# Altium schematic symbol library Main.SchLib: 64 symbols
Pins are listed as number, name and electrical type; pins without a type are passive.

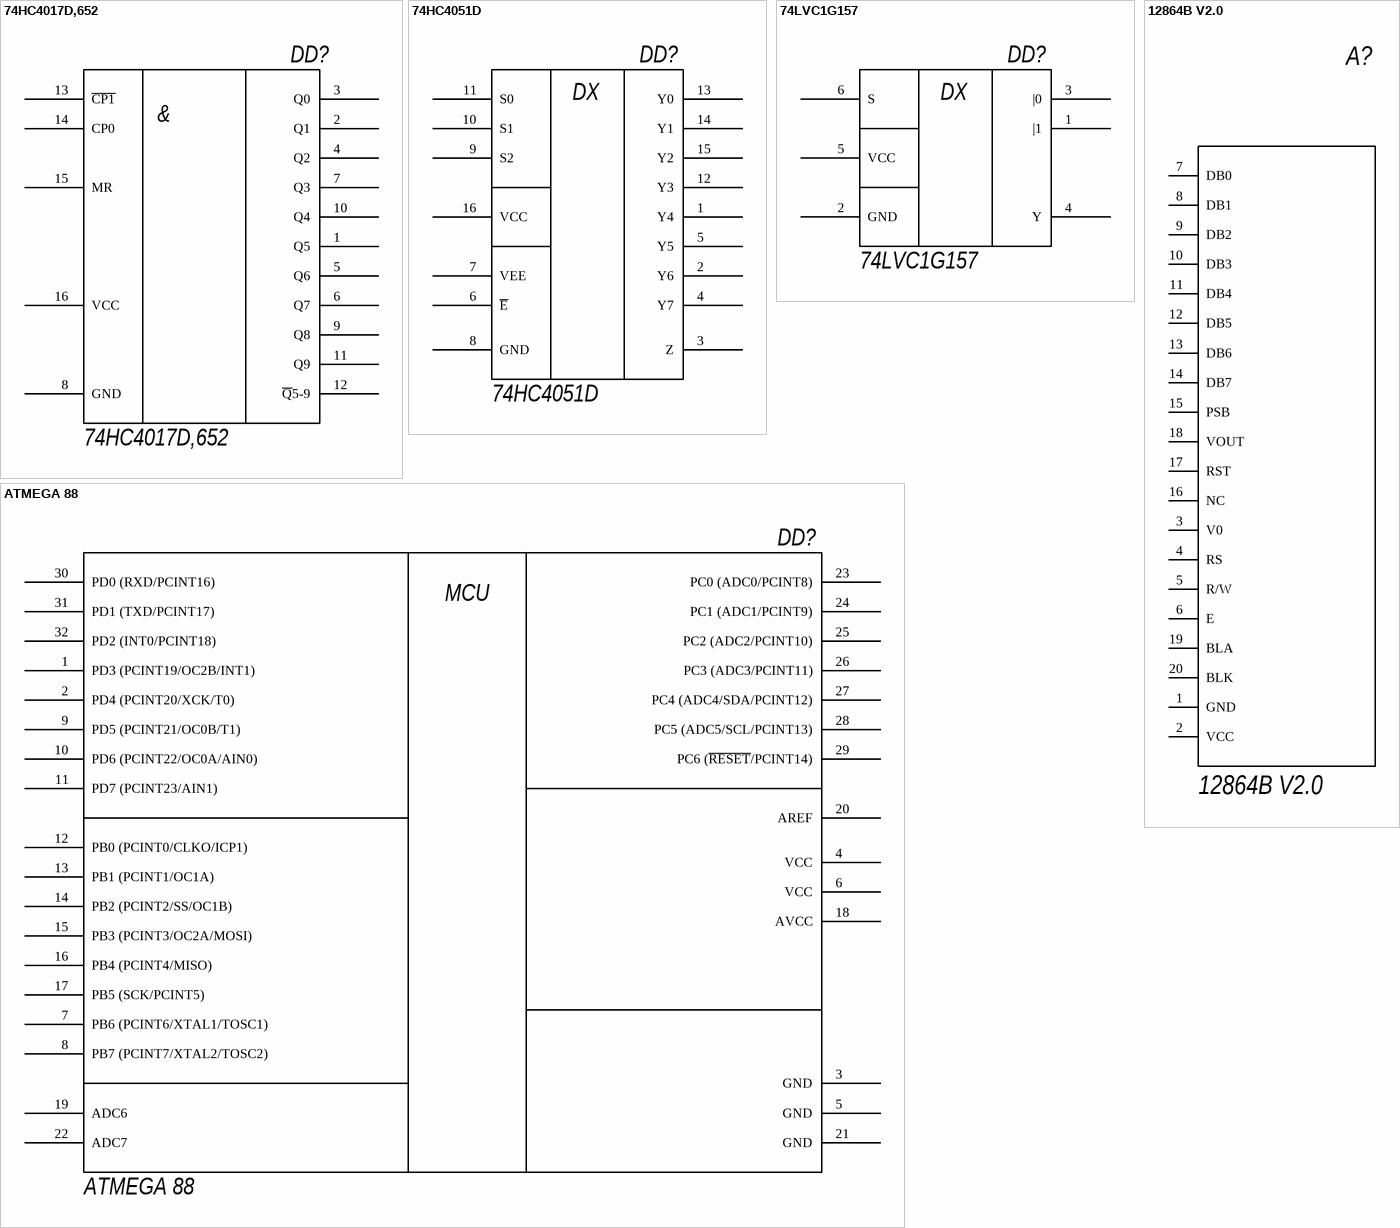
[diagram p0: symbols 74HC4017D,652 to ATMEGA 88]

## 74HC4017D,652
designator DD?
Микросхема, десятичный счетчик; Class: Схемы интегральные, цифровые; Note: *; Vendor: *
footprint SOP-16
pins: 1 Q5, 2 Q1, 3 Q0, 4 Q2, 5 Q6, 6 Q7, 7 Q3, 8 GND, 9 Q8, 10 Q4, 11 Q9, 12 ~{Q}5-9, 13 ~{CP1}, 14 CP0, 15 MR, 16 VCC
text: &

## 74HC4051D
designator DD?
Восьми канальный аналоговый мультиплексор/демультиплексор; Class: Схемы интегральные, цифровые
pins: 1 Y4, 2 Y6, 3 Z, 4 Y7, 5 Y5, 6 ~{E}, 7 VEE, 8 GND, 9 S2, 10 S1, 11 S0, 12 Y3, 13 Y0, 14 Y1, 15 Y2, 16 VCC
text: DX

## 74LVC1G157
designator DD?
Двухканальный канальный мультиплексор; Class: Схемы интегральные, цифровые
pins: 1 |1, 2 GND, 3 |0, 4 Y, 5 VCC, 6 S
text: DX

## 12864B V2.0
designator A?
ЖК монохромный дисплей / ("Mode" переключает внешний вид); Class: Устройства общего назначения; Note: *; Vendor: *
footprint LCD-12864B_v_2_0
pins: 1 GND, 2 VCC, 3 V0, 4 RS, 5 R/W, 6 E, 7 DB0, 8 DB1, 9 DB2, 10 DB3, 11 DB4, 12 DB5, 13 DB6, 14 DB7, 15 PSB, 16 NC, 17 RST, 18 VOUT, 19 BLA, 20 BLK
1 alternate drawing of the same symbol

## ATMEGA 88
designator DD?
Микроконтроллер 8бит, 8 Кб flash; Class: Схемы интегральные, цифровые; Note: *; Vendor: *
pins: 1 PD3 (PCINT19/OC2B/INT1), 2 PD4 (PCINT20/XCK/T0), 3 GND, 4 VCC, 5 GND, 6 VCC, 7 PB6 (PCINT6/XTAL1/TOSC1) , 8 PB7 (PCINT7/XTAL2/TOSC2) , 9 PD5 (PCINT21/OC0B/T1) , 10 PD6 (PCINT22/OC0A/AIN0) , 11 PD7 (PCINT23/AIN1) , 12 PB0 (PCINT0/CLKO/ICP1) , 13 PB1 (PCINT1/OC1A) , 14 PB2 (PCINT2/SS/OC1B) , 15 PB3 (PCINT3/OC2A/MOSI) , 16 PB4 (PCINT4/MISO) , 17 PB5 (SCK/PCINT5), 18 AVCC, 19 ADC6, 20 AREF, 21 GND, 22 ADC7, 23 PC0 (ADC0/PCINT8), 24 PC1 (ADC1/PCINT9), 25 PC2 (ADC2/PCINT10), 26 PC3 (ADC3/PCINT11), 27 PC4 (ADC4/SDA/PCINT12), 28 PC5 (ADC5/SCL/PCINT13), 29 PC6 (~{RESET}/PCINT14), 30 PD0 (RXD/PCINT16), 31 PD1 (TXD/PCINT17), 32 PD2 (INT0/PCINT18)
text: MCU

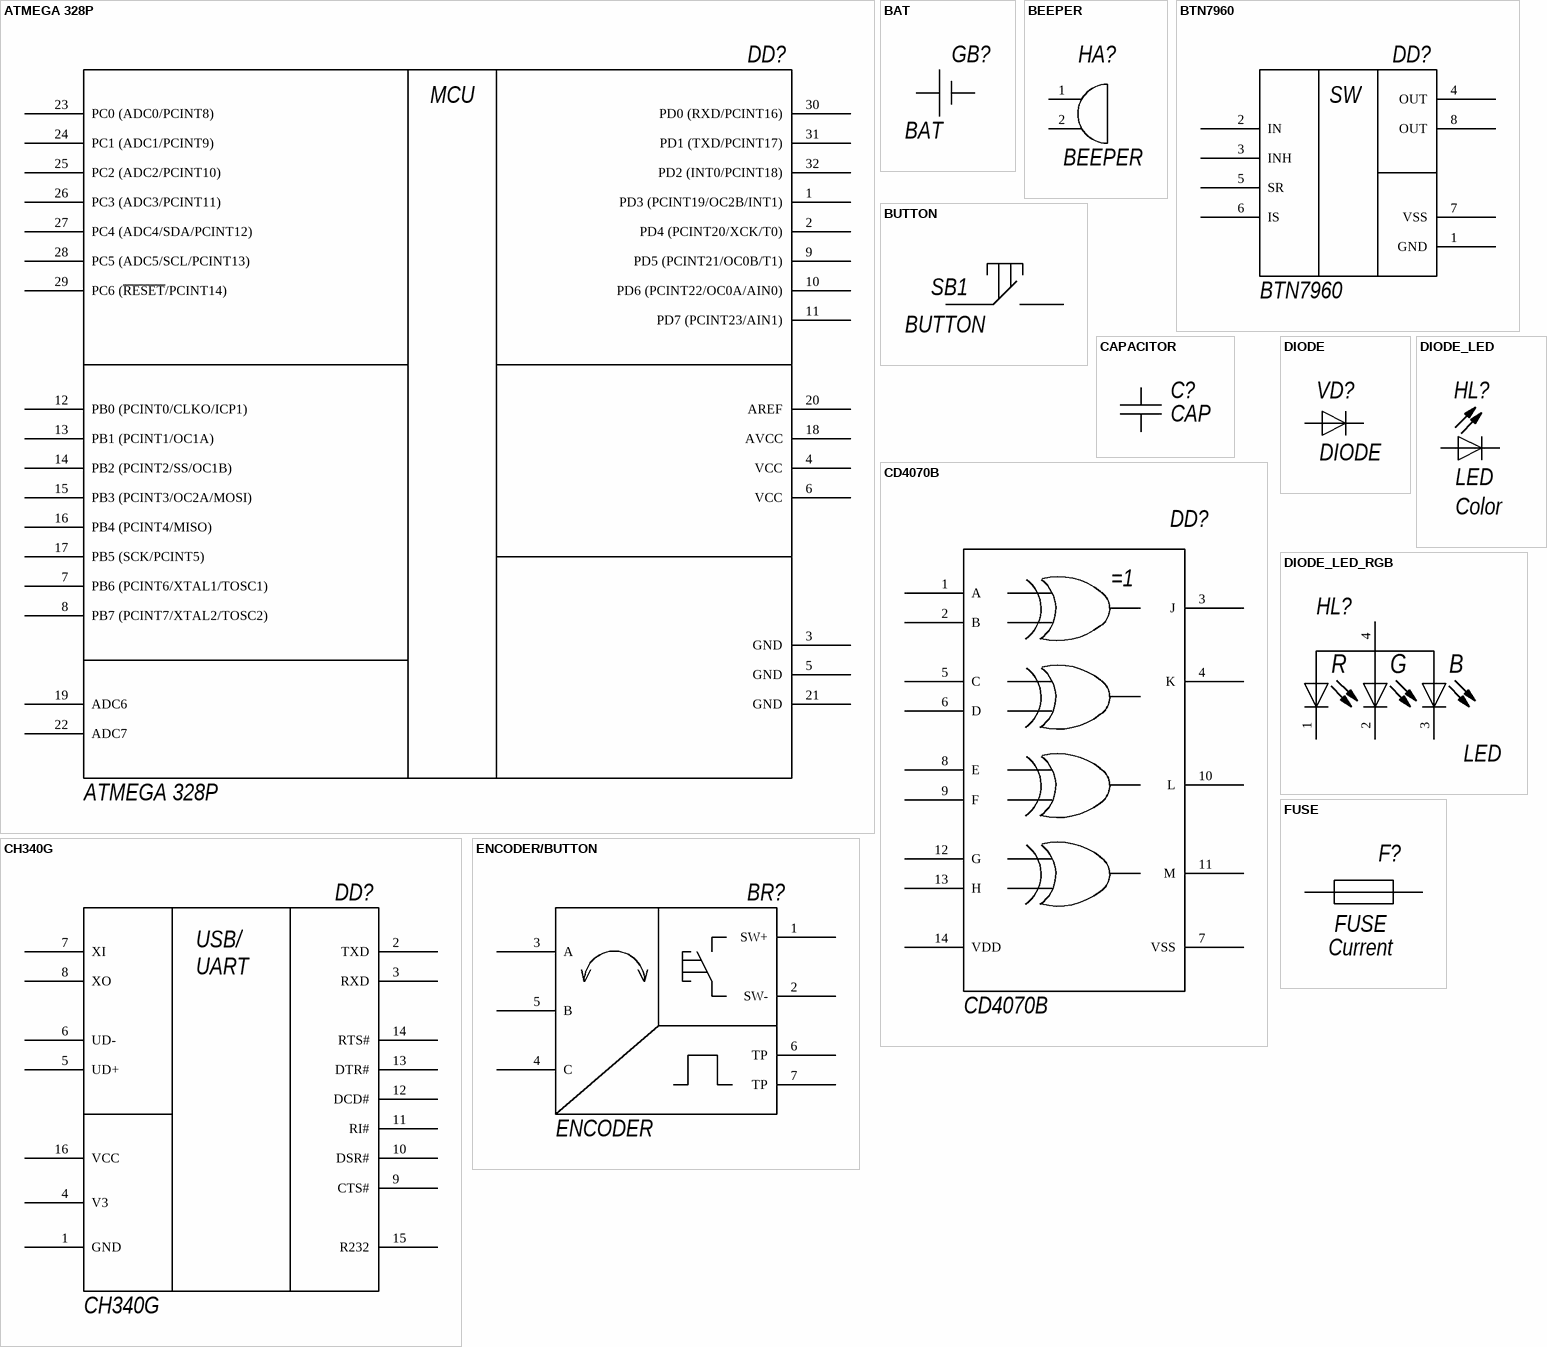
[diagram p1: symbols ATMEGA 328P to FUSE]

## ATMEGA 328P
designator DD?
Микроконтроллер 8бит, 32 Кб flash; Class: Схемы интегральные, цифровые; Vendor: Atmel; Note: *
footprint LQFP-32
pins: 1 PD3 (PCINT19/OC2B/INT1), 2 PD4 (PCINT20/XCK/T0), 3 GND, 4 VCC, 5 GND, 6 VCC, 7 PB6 (PCINT6/XTAL1/TOSC1), 8 PB7 (PCINT7/XTAL2/TOSC2), 9 PD5 (PCINT21/OC0B/T1), 10 PD6 (PCINT22/OC0A/AIN0), 11 PD7 (PCINT23/AIN1), 12 PB0 (PCINT0/CLKO/ICP1), 13 PB1 (PCINT1/OC1A), 14 PB2 (PCINT2/SS/OC1B), 15 PB3 (PCINT3/OC2A/MOSI), 16 PB4 (PCINT4/MISO), 17 PB5 (SCK/PCINT5), 18 AVCC, 19 ADC6, 20 AREF, 21 GND, 22 ADC7, 23 PC0 (ADC0/PCINT8), 24 PC1 (ADC1/PCINT9), 25 PC2 (ADC2/PCINT10), 26 PC3 (ADC3/PCINT11), 27 PC4 (ADC4/SDA/PCINT12), 28 PC5 (ADC5/SCL/PCINT13), 29 PC6 (~{RESET}/PCINT14), 30 PD0 (RXD/PCINT16), 31 PD1 (TXD/PCINT17), 32 PD2 (INT0/PCINT18)
text: MCU

## BAT
designator GB?
Батарея; Class: Генераторы, источники питания; Vendor: *; Note: *
pins: 1, 2

## BEEPER
designator HA?
Излучатель звука, прибор звуковой сигнализации; Class: Устройства индикационные и сигнальные; Vendor: *; Note: *
pins: 1, 2

## BTN7960
designator DD?
Полумостовая схема управления; Class: Схемы интегральные, цифровые; Vendor: Infineon; Note: *
footprint PG-TO263-7-1
pins: 1 GND, 2 IN, 3 INH, 4 OUT, 5 SR, 6 IS, 7 VSS, 8 OUT
text: SW

## BUTTON
designator SB1
Выключатель; Class: *; Note: *; Vendor: *
pins: 1, 2

## CAPACITOR
designator C?, comment CAP
Конденсатор / ("Mode" переключает внешний вид) / 1.  Постоянной емкости / 2. Поляризованный конденсатор / 3. Электролитический поляризованный / 4. Электролитический неполяризованный; Class: Конденсаторы; Note: *; Vendor: *
pins: 1, 2
3 alternate drawings of the same symbol

## CD4070B
designator DD?
Микросхема, 4 логических элемента "исключающее или" (XOR); Class: Схемы интегральные, цифровые; Note: *; Vendor: *
footprint SOP-16
pins: 1 A, 2 B, 3 J, 4 K, 5 C, 6 D, 7 VSS, 8 E, 9 F, 10 L, 11 M, 12 G, 13 H, 14 VDD

## CH340G
designator DD?
Преобразователь USB-UART; Class: Схемы интегральные, цифровые; Vendor: WCH; Note: *
footprint SOP-16
pins: 1 GND, 2 TXD, 3 RXD, 4 V3, 5 UD+, 6 UD-, 7 XI, 8 XO, 9 CTS#, 10 DSR#, 11 RI#, 12 DCD#, 13 DTR#, 14 RTS#, 15 R232, 16 VCC
text: USB/ / UART

## DIODE
designator VD?
Диод / ("Mode" переключает внешний вид) / 1. Общее обозначение / 2. Шоттки / 3. Стабилитрон; Class: Приборы полупроводниковые; Vendor: *
pins: 1, 2
2 alternate drawings of the same symbol

## DIODE_LED
designator HL?, comment LED  Note: Color
Светодиод, прибор световой сигнализации; Class: Устройства индикационные и сигнальные; Vendor: *
pins: 1, 2

## DIODE_LED_RGB
designator HL?, comment LED
Светодиод, прибор световой сигнализации / ("Mode" переключает внешний вид) / 1. С общим анодом / 2. С общим катодом /; Class: Устройства индикационные и сигнальные; Vendor: *; Note: *
pins: 1 R, 2 G, 3 B, 4 COM
1 alternate drawing of the same symbol

## ENCODER/BUTTON
designator BR?, comment ENCODER
Энкодер со встроенной кнопкой; Class: Преобразователи неэлектрических величин; Note: *; Vendor: *
footprint PEC11R-4215F-S0024
pins: 1 SW+, 2 SW-, 3 A, 4 C, 5 B, 6 TP, 7 TP

## FUSE
designator F?  Note: Current
Предохранитель / ("Mode" переключает внешний вид) / 1. Плавкий / 2. Самовосстанавливающийся; Class: Предохранители; Vendor: *
pins: 1, 2
1 alternate drawing of the same symbol

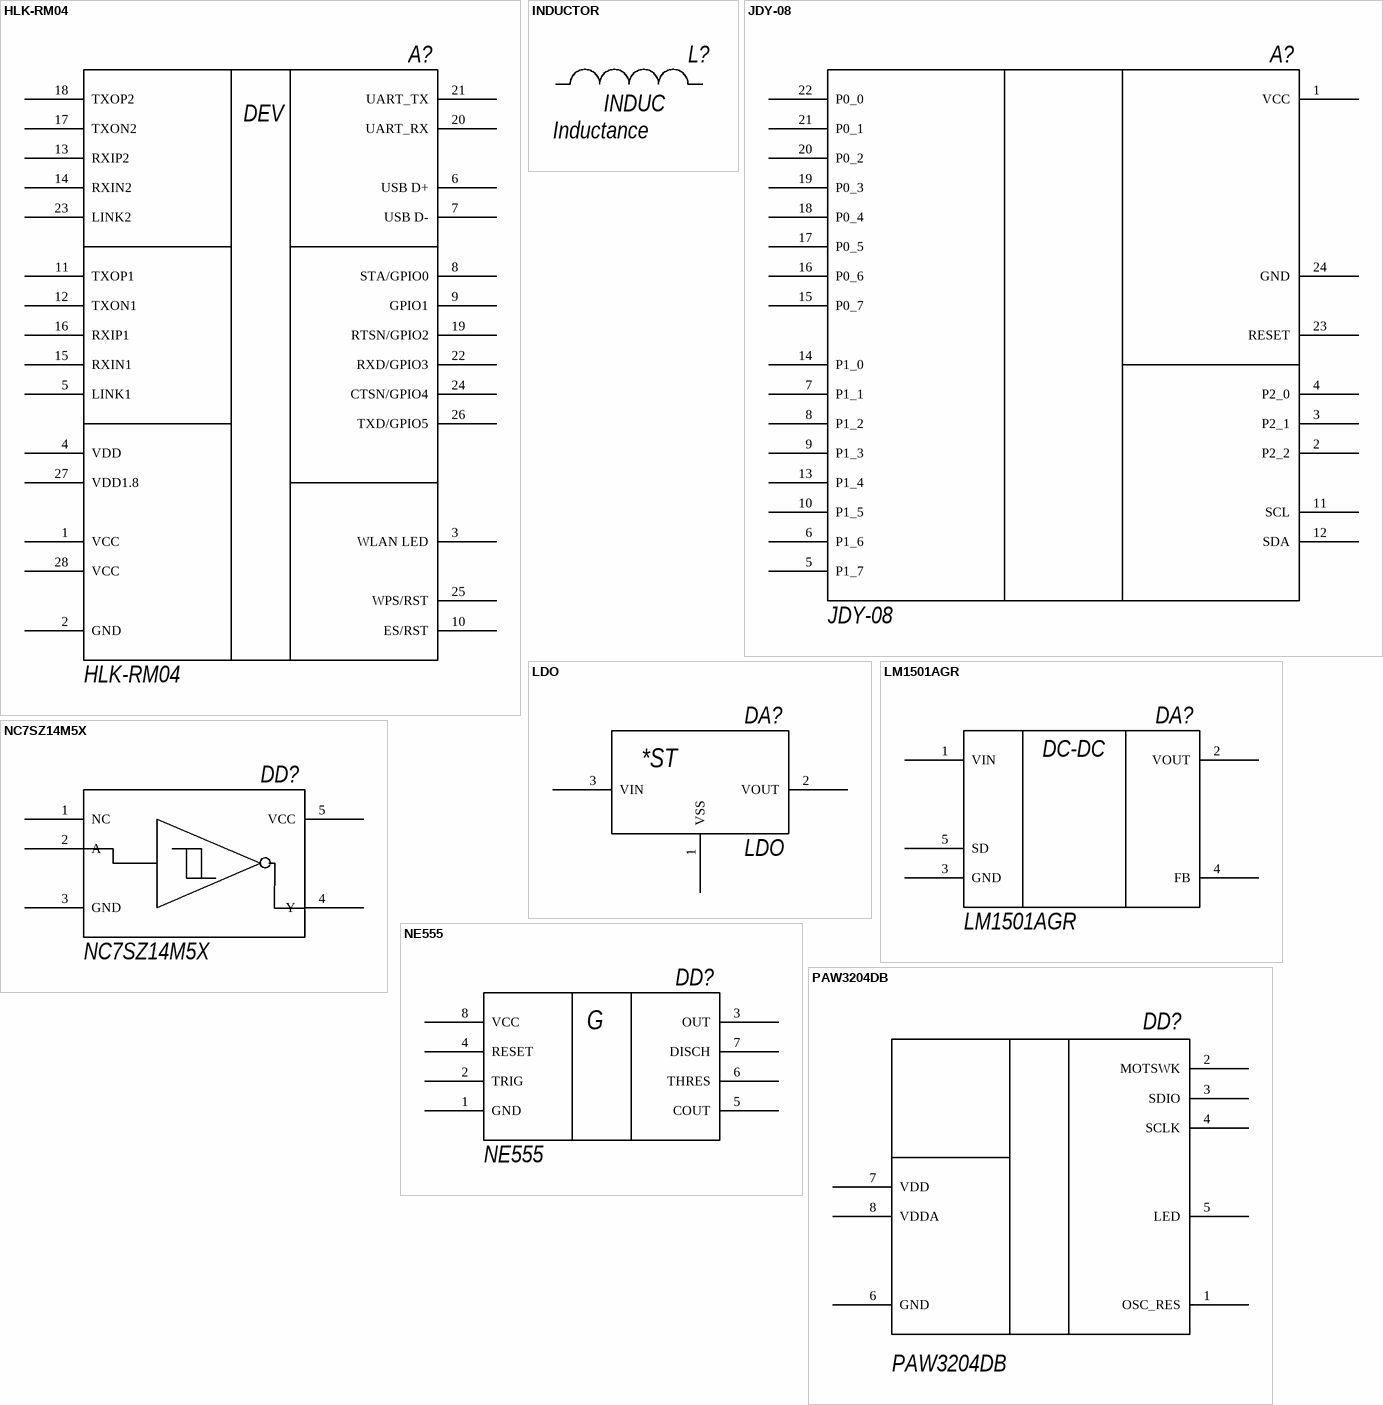
[diagram p2: symbols HLK-RM04 to PAW3204DB]

## HLK-RM04
designator A?
Wi-Fi модуль / ("Mode" переключает внешний вид); Class: Устройства общего назначения; Vendor: Hi-Link Tech; Note: *
footprint HLK-RM04
footprint HLK-RM04_PBS
pins: 1 VCC, 2 GND, 3 WLAN LED, 4 VDD, 5 LINK1, 6 USB D+, 7 USB D-, 8 STA/GPIO0, 9 GPIO1, 10 ES/RST, 11 TXOP1, 12 TXON1, 13 RXIP2, 14 RXIN2, 15 RXIN1, 16 RXIP1, 17 TXON2, 18 TXOP2, 19 RTSN/GPIO2, 20 UART_RX, 21 UART_TX, 22 RXD/GPIO3, 23 LINK2, 24 CTSN/GPIO4, 25 WPS/RST, 26 TXD/GPIO5, 27 VDD1.8, 28 VCC
1 alternate drawing of the same symbol
text: DEV

## INDUCTOR
designator L?, comment INDUC  Note: Inductance
Индуктивность; Class: Катушки индуктивности, дроссели; Vendor: *
pins: 1, 2

## JDY-08
designator A?
Модуль BLE, на базе МК CC2541; Class: Устройство; Note: *; Vendor: *
pins: 1 VCC, 2 P2_2, 3 P2_1, 4 P2_0, 5 P1_7, 6 P1_6, 7 P1_1, 8 P1_2, 9 P1_3, 10 P1_5, 11 SCL, 12 SDA, 13 P1_4, 14 P1_0, 15 P0_7, 16 P0_6, 17 P0_5, 18 P0_4, 19 P0_3, 20 P0_2, 21 P0_1, 22 P0_0, 23 RESET, 24 GND

## LDO
designator DA?
Стабилизатор напряжения, общее обозначение; Class: Интегральные микросхемы, аналоговые
pins: 1 VSS, 2 VOUT, 3 VIN
text: *ST

## LM1501AGR
designator DA?
Понижающий DC-DC преобразователь; Class: Интегральные микросхемы, аналоговые; Vendor: TAEJIN TECHNOLOGY Co., Ltd.; Note: *
pins: 1 VIN, 2 VOUT, 3 GND, 4 FB, 5 SD
text: DC-DC

## NC7SZ14M5X
designator DD?
Микросхема, инвертор с триггером Шмитта.; Class: Схемы интегральные, цифровые; Note: *; Vendor: *
footprint SOT-23-5
pins: 1 NC, 2 A, 3 GND, 4 Y, 5 VCC

## NE555
designator DD?
Микросхема, таймер/осциллятор; Class: Схемы интегральные, цифровые
pins: 1 GND, 2 TRIG, 3 OUT, 4 RESET, 5 COUT, 6 THRES, 7 DISCH, 8 VCC
text: G

## PAW3204DB
designator DD?
Оптический навиграционный сенсор; Class: Схемы интегральные, цифровые; Note: *; Vendor: *
footprint PAW3204DB
pins: 1 OSC_RES, 2 MOTSWK, 3 SDIO, 4 SCLK, 5 LED, 6 GND, 7 VDD, 8 VDDA

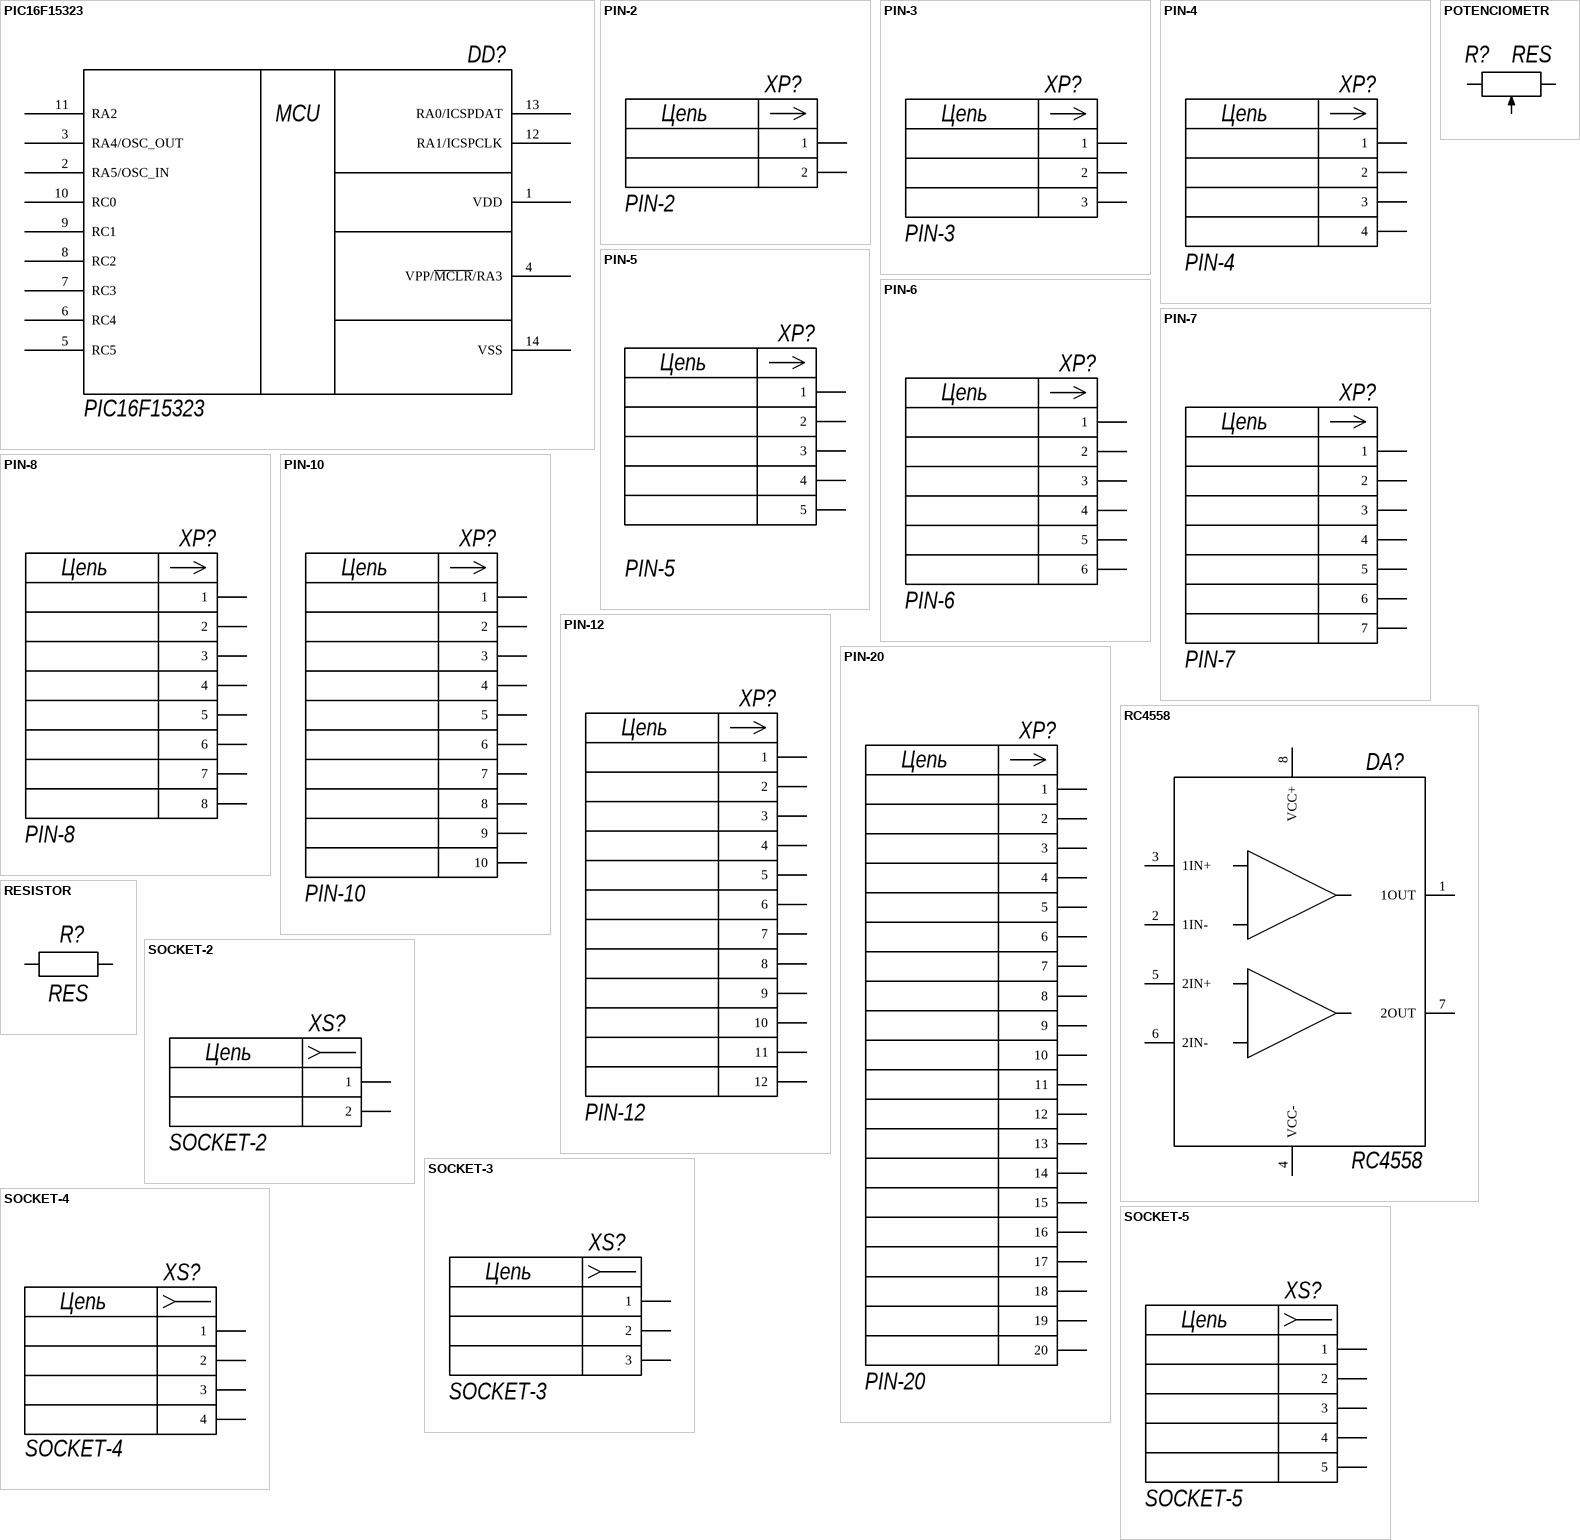
[diagram p3: symbols PIC16F15323 to SOCKET-5]

## PIC16F15323
designator DD?
Микроконтроллер 8бит, 3.5Кб flash; Class: Схемы интегральные, цифровые; Note: *; Vendor: *
pins: 1 VDD, 2 RA5/OSC_IN, 3 RA4/OSC_OUT, 4 VPP/~{MCLR}/RA3, 5 RC5, 6 RC4, 7 RC3, 8 RC2, 9 RC1, 10 RC0, 11 RA2, 12 RA1/ICSPCLK, 13 RA0/ICSPDAT, 14 VSS
text: MCU

## PIN-2
designator XP?
Штырь, 2 контакта / ("Mode" переключает внешний вид); Class: Соединения контактные
pins: 1, 2
1 alternate drawing of the same symbol
text: Цепь

## PIN-3
designator XP?
Штырь, 3 контакта / ("Mode" переключает внешний вид); Class: Соединения контактные
pins: 1, 2, 3
1 alternate drawing of the same symbol
text: Цепь

## PIN-4
designator XP?
Штырь, 4 контакта / ("Mode" переключает внешний вид); Class: Соединения контактные
pins: 1, 2, 3, 4
1 alternate drawing of the same symbol
text: Цепь

## PIN-5
designator XP?
Штырь, 5 контакта / ("Mode" переключает внешний вид); Class: Соединения контактные
pins: 1, 2, 3, 4, 5
1 alternate drawing of the same symbol
text: Цепь

## PIN-6
designator XP?
Штырь, 6 контактов /; Class: Соединения контактные
pins: 1, 2, 3, 4, 5, 6
text: Цепь

## PIN-7
designator XP?
Штырь, 7 контактов /; Class: Соединения контактные
pins: 1, 2, 3, 4, 5, 6, 7
text: Цепь

## PIN-8
designator XP?
Штырь, 8 контактов /; Class: Соединения контактные
pins: 1, 2, 3, 4, 5, 6, 7, 8
text: Цепь

## PIN-10
designator XP?
Штырь, 10 контактов /; Class: Соединения контактные
pins: 1, 2, 3, 4, 5, 6, 7, 8, 9, 10
text: Цепь

## PIN-12
designator XP?
Штырь, 12 контактов /; Class: Соединения контактные
pins: 1, 2, 3, 4, 5, 6, 7, 8, 9, 10, 11, 12
text: Цепь

## PIN-20
designator XP?
Штырь, 20 контактов /; Class: Соединения контактные
pins: 1, 2, 3, 4, 5, 6, 7, 8, 9, 10, 11, 12, 13, 14, 15, 16, 17, 18, 19, 20
text: Цепь

## POTENCIOMETR
designator R?, comment RES
Резистор переменный / ("Mode" переключает внешний вид) / 1. Общее обозначение; Class: Резисторы; Vendor: *; Note: *
pins: 1, 2, 3

## RC4558
designator DA?
2-х канальный операционный усилитель общего назначения; Class: Интегральные микросхемы, аналоговые; Note: *; Vendor: *
pins: 1 1OUT, 2 1IN-, 3 1IN+, 4 VCC-, 5 2IN+, 6 2IN-, 7 2OUT, 8 VCC+

## RESISTOR
designator R?, comment RES
Постоянный резистор / ("Mode" переключает внешний вид) / \ 0.25 Вт; \\ 0.125 Вт; \\\ 0.05 Вт; -- 0.5 Вт; | 1 Вт: || 2 Вт; V 5 Вт; Class: Резисторы; Vendor: *; Note: *
pins: 1, 2
7 alternate drawings of the same symbol

## SOCKET-2
designator XS?
Гнездо, 2 контакта; Class: Соединения контактные
pins: 1, 2
text: Цепь

## SOCKET-3
designator XS?
Гнездо, 3 контакта; Class: Соединения контактные
pins: 1, 2, 3
text: Цепь

## SOCKET-4
designator XS?
Гнездо, 4 контакта; Class: Соединения контактные
pins: 1, 2, 3, 4
text: Цепь

## SOCKET-5
designator XS?
Гнездо, 5 контактов; Class: Соединения контактные
pins: 1, 2, 3, 4, 5
text: Цепь

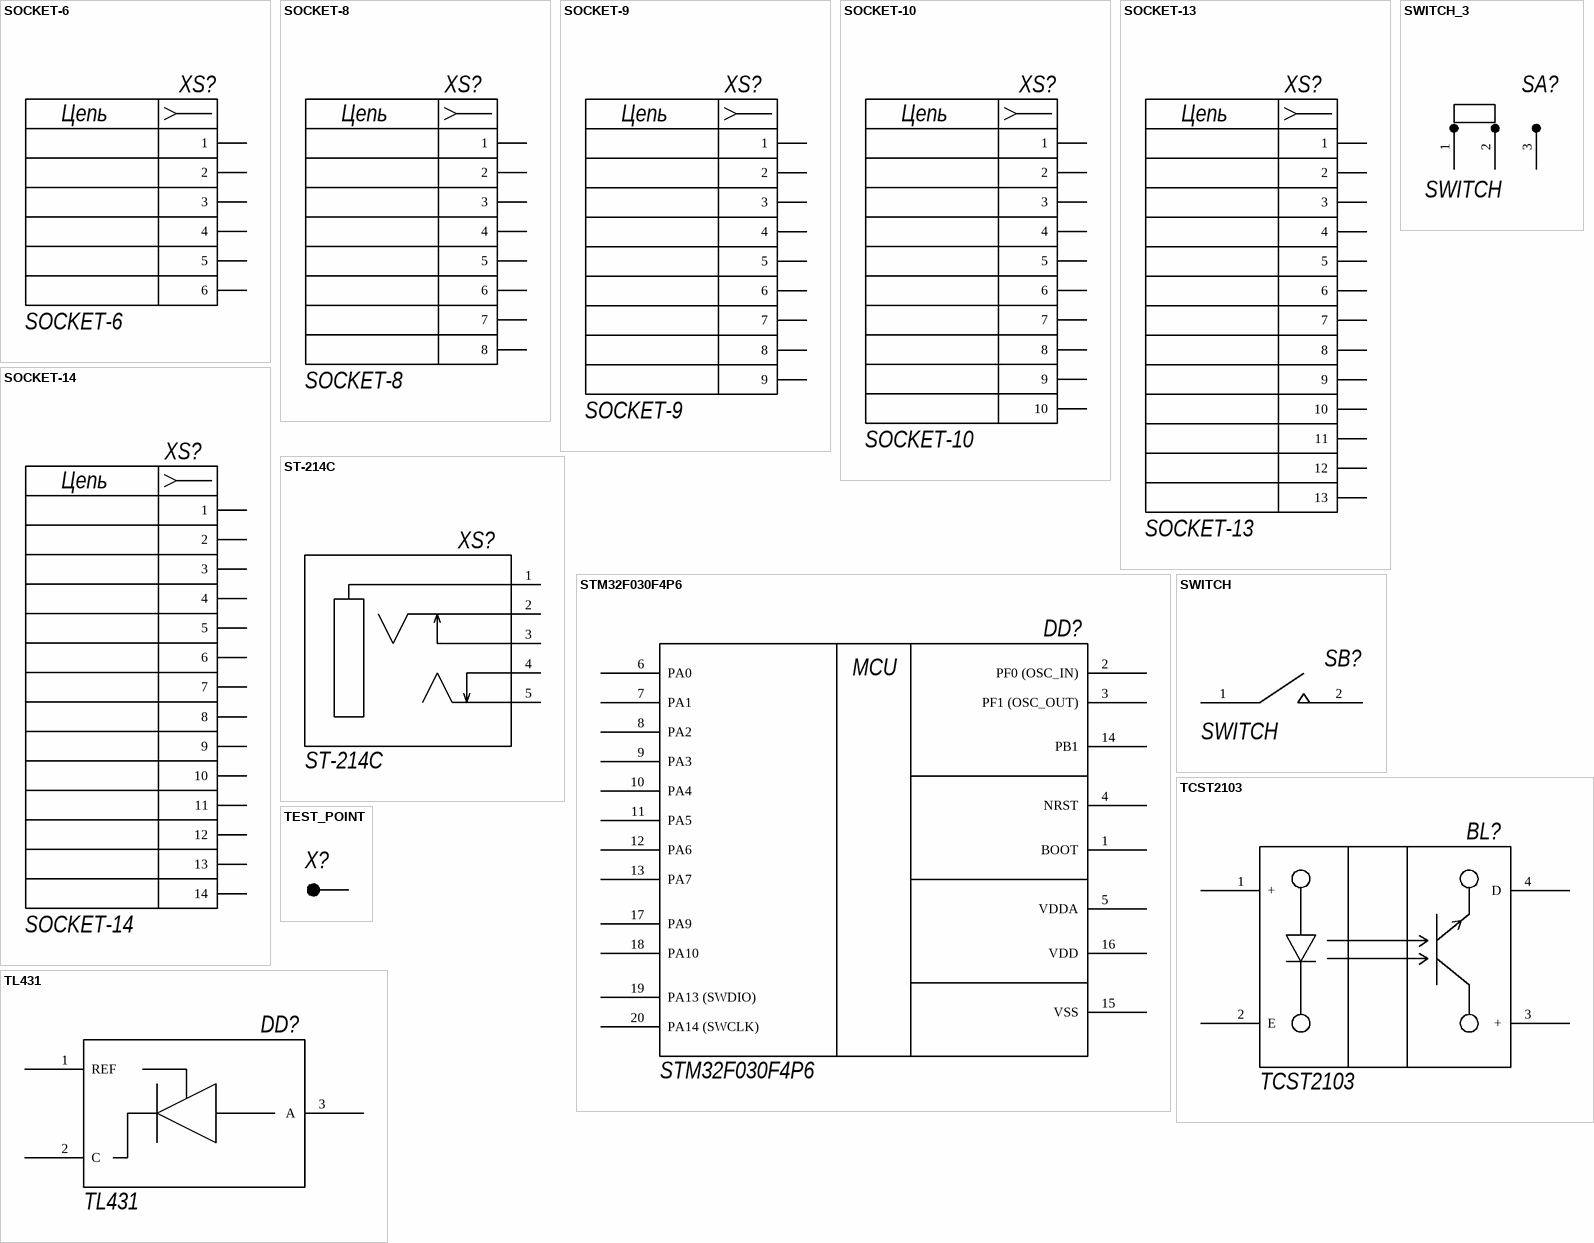
[diagram p4: symbols SOCKET-6 to TL431]

## SOCKET-6
designator XS?
Гнездо, 6 контактов /; Class: Соединения контактные
pins: 1, 2, 3, 4, 5, 6
text: Цепь

## SOCKET-8
designator XS?
Гнездо, 8 контактов; Class: Соединения контактные
pins: 1, 2, 3, 4, 5, 6, 7, 8
text: Цепь

## SOCKET-9
designator XS?
Гнездо, 9 контактов; Class: Соединения контактные
pins: 1, 2, 3, 4, 5, 6, 7, 8, 9
text: Цепь

## SOCKET-10
designator XS?
Гнездо, 10 контактов /; Class: Соединения контактные
pins: 1, 2, 3, 4, 5, 6, 7, 8, 9, 10
text: Цепь

## SOCKET-13
designator XS?
Гнездо, 13 контактов; Class: Соединения контактные
pins: 1, 2, 3, 4, 5, 6, 7, 8, 9, 10, 11, 12, 13
text: Цепь

## SOCKET-14
designator XS?
Гнездо, 14 контактов; Class: Соединения контактные
pins: 1, 2, 3, 4, 5, 6, 7, 8, 9, 10, 11, 12, 13, 14
text: Цепь

## ST-214C
designator XS?
Аудиоразъем гнездо, 5 контактов; Class: Соединения контактные
footprint ST-214C
pins: 1, 2, 3, 4, 5

## STM32F030F4P6
designator DD?
Микроконтроллер 32бит, 256(16)Кб flash; Class: Схемы интегральные, цифровые; Note: *; Vendor: *
pins: 1 BOOT, 2 PF0 (OSC_IN), 3 PF1 (OSC_OUT), 4 NRST, 5 VDDA, 6 PA0, 7 PA1, 8 PA2, 9 PA3, 10 PA4, 11 PA5, 12 PA6, 13 PA7 , 14 PB1, 15 VSS, 16 VDD, 17 PA9, 18 PA10, 19 PA13 (SWDIO), 20 PA14 (SWCLK)
text: MCU

## SWITCH
designator SB?
Выключатель кнопочный (кнопка) / ("Mode" переключает внешний вид) / 1. Замыкающая без фиксации / 2. Замыкающая c фиксацией / 3. Размыкающая без фиксации / 4. Размыкающая с фиксации; Class: Устройства коммутационные в цепях управления, сигнализации и измерительных
pins: 1 MR, 2 MR
3 alternate drawings of the same symbol

## SWITCH_3
designator SA?, comment SWITCH
Выключатель или переключатель; Class: Устройства коммутационные в цепях управления, сигнализации и измерительных
pins: 1 MR, 2 MR, 3 MR

## TCST2103
designator BL?
Оптический сенсор, фотоэлемент; Class: Преобразователи неэлектрических величин; Note: *; Vendor: *
footprint TCST2103
pins: 1 +, 2 E, 3 +, 4 D

## TEST_POINT
designator X?  (value not drawn)
Индикатор контрольной точки; Class: Соединения контактные; Note: *; Vendor: *
footprint PAD
pins: 1

## TL431
designator DD?
Микросхема, программируемый стабилитрон.; Class: Схемы интегральные, цифровые; Note: *; Vendor: *
pins: 1 REF, 2 C, 3 A

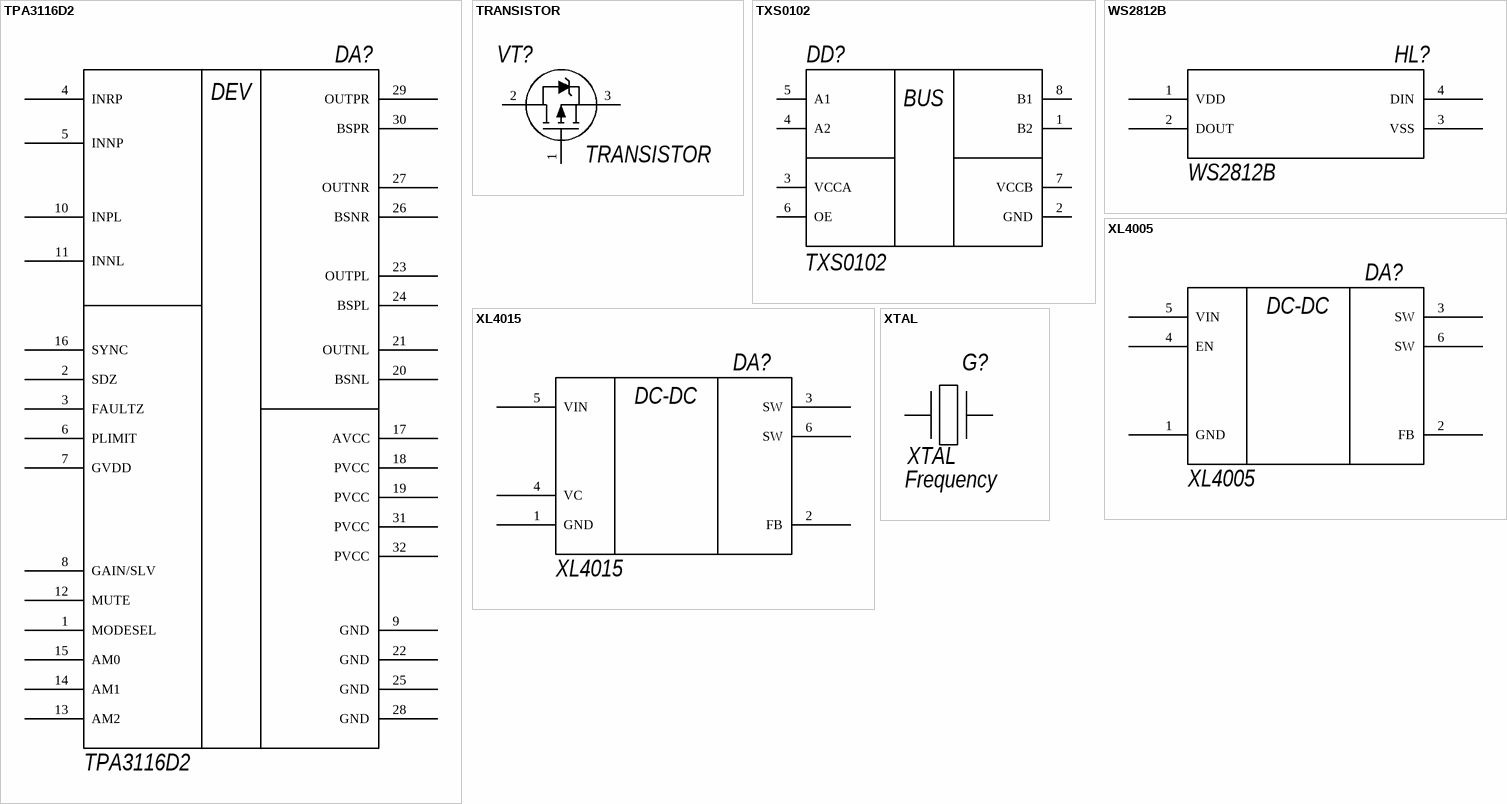
[diagram p5: symbols TPA3116D2 to XTAL]

## TPA3116D2
designator DA?
Аудио усилитель класса-D; Class: Схемы интегральные, аналоговые; Vendor: Texas Instruments; Note: *
footprint DAD-32
pins: 1 MODESEL, 2 SDZ, 3 FAULTZ, 4 INRP, 5 INNP, 6 PLIMIT, 7 GVDD, 8 GAIN/SLV, 9 GND, 10 INPL, 11 INNL, 12 MUTE, 13 AM2, 14 AM1, 15 AM0, 16 SYNC, 17 AVCC, 18 PVCC, 19 PVCC, 20 BSNL, 21 OUTNL, 22 GND, 23 OUTPL, 24 BSPL, 25 GND, 26 BSNR, 27 OUTNR, 28 GND, 29 OUTPR, 30 BSPR, 31 PVCC, 32 PVCC
text: DEV

## TRANSISTOR
designator VT?
Транзистор / ("Mode" переключает внешний вид) / 1. P-CH MOSFET / 2. N-CH MOSFET / 3. PNP / 4. NPN; Class: Приборы полупроводниковые; Note: *; Vendor: *
pins: 1, 2, 3
3 alternate drawings of the same symbol

## TXS0102
designator DD?
2-х канальный, двунаправленный преобразователь уровня; Class: Схемы интегральные, цифровые; Note: *; Vendor: *
pins: 1 B2, 2 GND, 3 VCCA, 4 A2, 5 A1, 6 OE, 7 VCCB, 8 B1
text: BUS

## WS2812B
designator HL?
RGB светодиод с пиксельной адрессацией, прибор световой сигнализации; Class: Устройства индикационные и сигнальные; Note: *; Vendor: *
footprint TO-263-5
pins: 1 VDD, 2 DOUT, 3 VSS, 4 DIN

## XL4005
designator DA?
Понижающий DC-DC преобразователь; Class: Интегральные микросхемы, аналоговые; Vendor: XLSEMI; Note: *
footprint TO-263-5
pins: 1 GND, 2 FB, 3 SW, 4 EN, 5 VIN, 6 SW
text: DC-DC

## XL4015
designator DA?
Понижающий DC-DC преобразователь; Class: Интегральные микросхемы, аналоговые; Vendor: XLSEMI; Note: *
footprint TO-263-5
pins: 1 GND, 2 FB, 3 SW, 4 VC, 5 VIN, 6 SW
text: DC-DC

## XTAL
designator G?  Note: Frequency
Кварцевый резонатор; Class: Кварцевые осцилляторы; Vendor: *
pins: 1, 2